# Altium schematic symbol library LM34-A3S-PI-N.Schlib: 1 symbol
Pins are listed as number, name and electrical type; pins without a type are passive.

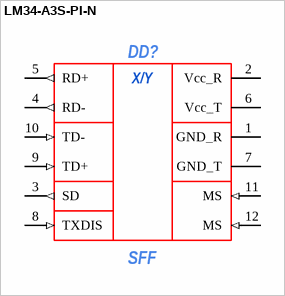
[diagram p0: symbol LM34-A3S-PI-N]

## LM34-A3S-PI-N
designator DD?, comment SFF
footprint SFF
pins: 1 GND_R (power) "Receiver Signal Ground", 2 Vcc_R (power) "3.3V DC", 3 SD (out) "“1” - “Signal valid”, “0” – “Lose of signal”", 4 RD- (out), 5 RD+ (out), 6 Vcc_T (power) "3.3V DC", 7 GND_T (power), 8 TXDIS (in) "Transmitter Disable (LVTTL), “1” – Disable, “0” – Enable", 9 TD+ (in), 10 TD-  (in), 11 MS (in), 12 MS (in)
text: X/Y